# Altium footprint library 653102131822.PcbLib: 1 footprints
Each footprint in its own frame and in the unit in brackets; x right, y up, seen from the top. Pads: shape width x height; smd on the part's side, far side on the other; paste and mask are expansions set on the pad; w line width, h text height; cw(c..) or ccw(c..) is an arc to the next point about the centre after c.
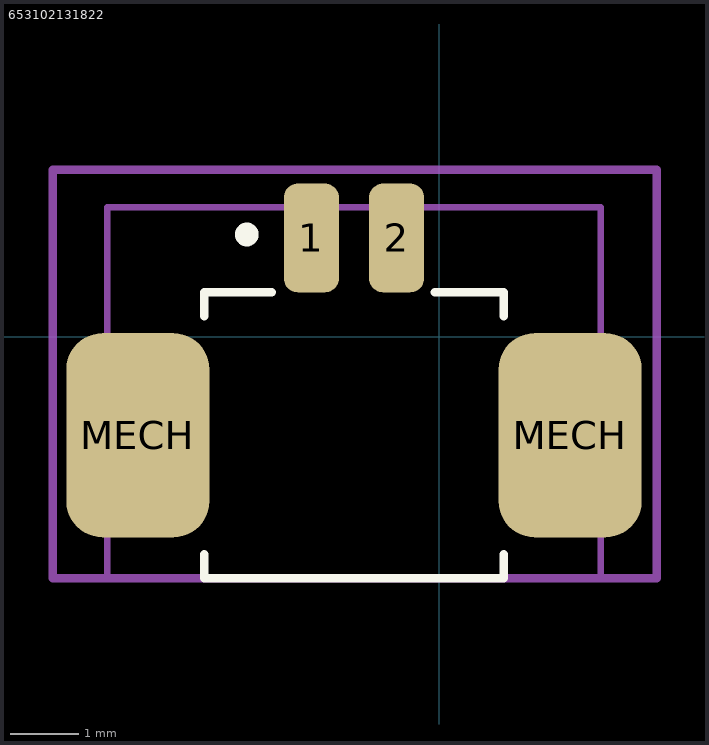
[diagram p0: the footprint, top view; thin cyan lines are the x and y axes]

## 653102131822 [mm] "SMT Male Horizontal Shrouded Header - 02p 1 row - T & R packaging"
height 3.4
pads (4):
  rrect50% 0.81x1.6 smd: 1(-1.875,1.45) 2(-0.625,1.45)
  rrect50% 2.1x3 smd: MECH(-4.425,-1.45) MECH(1.925,-1.45)
Top Overlay:
  circle w0.2: c-2.825,1.5 r0.075
  lines w0.127: -3.45,-3.2 -3.45,-3.55 0.95,-3.55 0.95,-3.2 ; -3.45,0.3 -3.45,0.65 -2.46,0.65 ; -0.06,0.65 0.16,0.65 ; 0.95,0.3 0.95,0.65 0.16,0.65 ; -2.46,0.65 -2.46,0.65 ; 0.16,0.65 0.16,0.65
Top Assembly:
  lines w0.1: -4.875,-3.55 2.375,-3.55 2.375,1.9 -4.875,1.9 -4.875,-3.55
Top Courtyard:
  lines w0.127: -5.675,-3.55 -5.675,2.45 3.2,2.45 3.2,-3.55 -5.675,-3.55
3D body "653102131822 (rev1).stp": height 3.42, standoff 0.01, extent -4.875,-3.6 2.375,1.81